# Altium footprint library 140.PcbLib: 7 footprints
Each footprint in its own frame and in the unit in brackets; x right, y up, seen from the top. Pads: shape width x height; smd on the part's side, far side on the other; paste and mask are expansions set on the pad; w line width, h text height; cw(c..) or ccw(c..) is an arc to the next point about the centre after c.
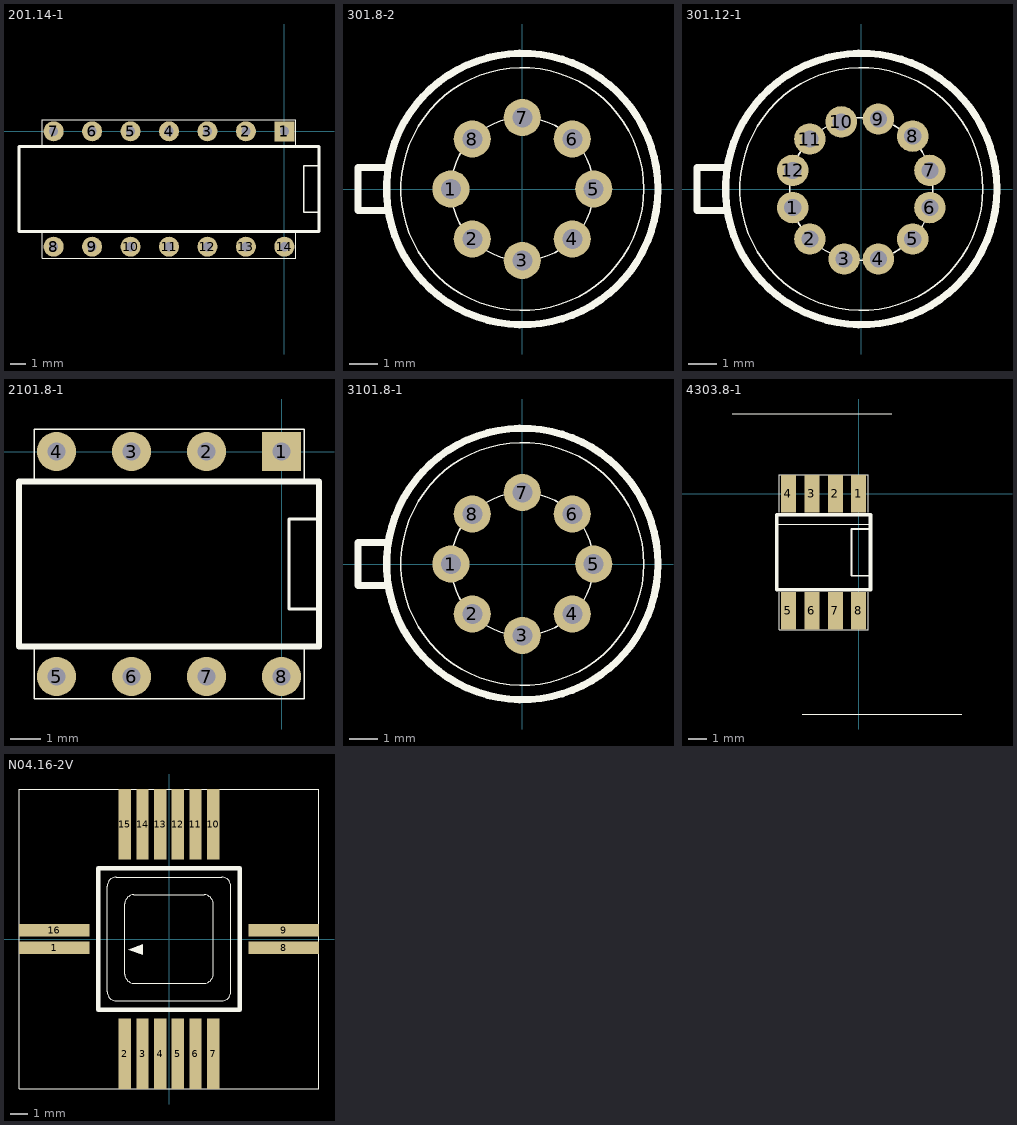
[diagram p0: the footprints below, top view; thin cyan lines are the x and y axes]

## 201.14-1 [mm]
pads (14):
  rect 1.3x1.3 hole 0.6: 1(0,0)
  round 1.3 hole 0.6: 2(-2.5,0) 3(-5,0) 4(-7.5,0) 5(-10,0) 6(-12.5,0) 7(-15,0) 8(-15,-7.5) 9(-12.5,-7.5) 10(-10,-7.5) 11(-7.5,-7.5) 12(-5,-7.5) 13(-2.5,-7.5) 14(0,-7.5)
Top Overlay:
  lines w0.05: -15.75,-6.5 -15.75,-8.25 0.75,-8.25 0.75,-6.5 ; -15.75,-1 -15.75,0.75 0.75,0.75 0.75,-1
  lines w0.1: 2.25,-5.25 1.25,-5.25 1.25,-2.25 2.25,-2.25
  lines w0.2: -17.25,-6.5 2.25,-6.5 2.25,-1 -17.25,-1 -17.25,-6.5

## 301.8-2 [mm]
pads (8):
  round 1.3 hole 0.7: 1(-2.5,0) 2(-1.75,-1.75) 3(0,-2.5) 4(1.75,-1.75) 5(2.5,0) 6(1.75,1.75) 7(0,2.5) 8(-1.75,1.75)
Top Overlay:
  circle w0.05: c0,0 r2.5
  circle w0.254: c0,0 r4.75
  circle w0.05: c0,0 r4.25
  lines w0.254: -4.75,-0.75 -5.75,-0.75 -5.75,0.75 -4.75,0.75

## 301.12-1 [mm]
pads (12):
  round 1.1 hole 0.6: 1(-2.4,-0.65) 2(-1.8,-1.75) 3(-0.6,-2.45) 4(0.6,-2.45) 5(1.8,-1.75) 6(2.4,-0.65) 7(2.4,0.65) 8(1.8,1.85) 9(0.6,2.45) 10(-0.7,2.35) 11(-1.8,1.75) 12(-2.4,0.65)
Top Overlay:
  circle w0.05: c0,0 r2.5
  circle w0.254: c0,0 r4.75
  circle w0.05: c0,0 r4.25
  lines w0.254: -4.75,-0.75 -5.75,-0.75 -5.75,0.75 -4.75,0.75

## 2101.8-1 [mm]
pads (8):
  rect 1.3x1.3 hole 0.6: 1(0,0)
  round 1.3 hole 0.6: 2(-2.5,0) 3(-5,0) 4(-7.5,0) 5(-7.5,-7.5) 6(-5,-7.5) 7(-2.5,-7.5) 8(0,-7.5)
Top Overlay:
  lines w0.05: -8.25,-6.5 -8.25,-8.25 0.75,-8.25 0.75,-6.5 ; -8.25,-1 -8.25,0.75 0.75,0.75 0.75,-1
  lines w0.1: 1.25,-5.25 0.25,-5.25 0.25,-2.25 1.25,-2.25
  lines w0.2: -8.75,-6.5 1.25,-6.5 1.25,-1 -8.75,-1 -8.75,-6.5

## 3101.8-1 [mm]
pads (8):
  round 1.3 hole 0.7: 1(-2.5,0) 2(-1.75,-1.75) 3(0,-2.5) 4(1.75,-1.75) 5(2.5,0) 6(1.75,1.75) 7(0,2.5) 8(-1.75,1.75)
Top Overlay:
  circle w0.05: c0,0 r2.5
  circle w0.254: c0,0 r4.75
  circle w0.05: c0,0 r4.25
  lines w0.254: -4.75,-0.75 -5.75,-0.75 -5.75,0.75 -4.75,0.75

## 4303.8-1 [mm]
pads (8):
  rect 0.8x2 smd: 1(0,0) 2(-1.25,0) 3(-2.5,0) 4(-3.75,0) 5(-3.75,-6.25) 6(-2.5,-6.25) 7(-1.25,-6.25) 8(0,-6.25)
Top Overlay:
  lines w0.05: -6.75,4.25 1.75,4.25 ; -4.375,-1.625 0.625,-1.625 ; -4.25,-5.25 -4.25,-7.25 0.5,-7.25 0.5,-5.25 ; -4.25,-1 -4.25,1 0.375,1 0.5,1 0.5,-1 ; -3,-11.75 5.5,-11.75
  lines w0.1: 0.625,-4.375 -0.375,-4.375 -0.375,-1.875 0.625,-1.875
  lines w0.2: -4.375,-5.125 -4.375,-1.125 0.625,-1.125 0.625,-5.125 -4.375,-5.125

## N04.16-2V [mm]
pads (16):
  rect 4x0.7 smd: 1(-6.5,-0.5) 8(6.5,-0.5) 9(6.5,0.5) 16(-6.5,0.5)
  rect 0.7x4 smd: 2(-2.5,-6.5) 3(-1.5,-6.5) 4(-0.5,-6.5) 5(0.5,-6.5) 6(1.5,-6.5) 7(2.5,-6.5) 10(2.5,6.5) 11(1.5,6.5) 12(0.5,6.5) 13(-0.5,6.5) 14(-1.5,6.5) 15(-2.5,6.5)
Top Overlay:
  region: -1.5,-0.9 -1.5,-0.3 -2.3,-0.6
  lines w0.05: -3.5,3 cw(c-3,3) -3,3.5 ; -3.5,3 cw(c-3,3) -3,3.5 ; -3.5,3 -3.5,-3 ccw(c-3,-3) -3,-3.5 0,-3.5 3,-3.5 ccw(c3,-3) 3.5,-3 3.5,3 ccw(c3,3) 3,3.5 -3,3.5 ; -8.5,-8.5 8.5,-8.5 8.5,8.5 -8.5,8.5 -8.5,-8.5 ; -2.5,-2 ccw(c-2,-2) -2,-2.5 2,-2.5 ccw(c2,-2) 2.5,-2 2.5,2 ccw(c2,2) 2,2.5 -2,2.5 ccw(c-2,2) -2.5,2 -2.5,-2
  lines w0.254: -4,-4 4,-4 4,4 -4,4 -4,-4